# Altium footprint library Connectors-Headers.PcbLib: 4 footprints
Each footprint in its own frame and in the unit in brackets; x right, y up, seen from the top. Pads: shape width x height; smd on the part's side, far side on the other; paste and mask are expansions set on the pad; w line width, h text height; cw(c..) or ccw(c..) is an arc to the next point about the centre after c.
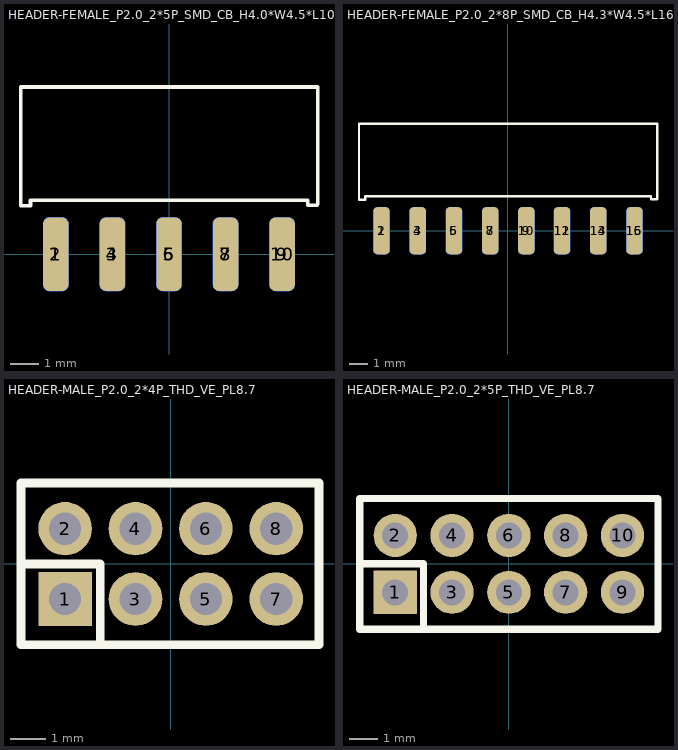
[diagram p0: the footprints below, top view; thin cyan lines are the x and y axes]

## HEADER-FEMALE_P2.0_2*5P_SMD_CB_H4.0*W4.5*L10.0 [mm]
pads (10):
  rrect50% 0.9x2.6 smd: 1(-4,0) 3(-2,0) 5(0,0) 7(2,0) 9(3.997,0)
  rrect50% 0.9x2.6 smd far side: 2(-4,0) 4(-2,0) 6(0,0) 8(2,0) 10(4,0)
Top Overlay:
  lines w0.127: -5.245,1.707 -5.245,2.113 -5.245,5.91 5.255,5.91 5.255,2.199 5.255,1.759 5.228,1.732 5.068,1.732 4.908,1.732 4.908,1.91 -4.893,1.91 -4.893,1.707 -5.245,1.707
Bottom Overlay:
  lines w0.127: -5.245,1.707 -5.245,2.113 -5.245,5.91 5.255,5.91 5.255,2.199 5.255,1.759 5.228,1.732 5.068,1.732 4.908,1.732 4.908,1.91 -4.893,1.91 -4.893,1.707 -5.245,1.707

## HEADER-FEMALE_P2.0_2*8P_SMD_CB_H4.3*W4.5*L16.6 [mm]
pads (16):
  rrect50% 0.9x2.6 smd: 1(-6.984,0) 3(-4.984,0) 5(-2.984,0) 7(-0.984,0) 9(1.013,0) 11(2.985,0) 13(4.985,0) 15(6.982,0)
  rrect50% 0.9x2.6 smd far side: 2(-6.984,0) 4(-4.984,0) 6(-2.984,0) 8(-0.984,0) 10(1.016,0) 12(2.985,0) 14(4.985,0) 16(6.985,0)
Top Overlay:
  lines w0.127: -8.229,1.707 -7.878,1.707 -7.878,1.91 7.893,1.91 7.893,1.732 8.052,1.732 8.213,1.732 8.24,1.759 8.24,2.199 8.24,5.91 -8.229,5.91 -8.229,2.113 -8.229,1.707
Bottom Overlay:
  lines w0.127: -8.229,5.91 -8.229,2.113 -8.229,1.707 -7.878,1.707 -7.878,1.91 ; 7.893,1.91 7.893,1.732 8.052,1.732 8.213,1.732 8.24,1.759 8.24,2.199 8.24,5.91

## HEADER-MALE_P2.0_2*4P_THD_VE_PL8.7 [mil]
pads (8):
  rect 60x60 hole 36: 1(-118.12,-39.37)
  round 60 hole 36: 2(-118.12,39.37) 3(-39.36,-39.37) 4(-39.36,39.37) 5(39.38,-39.37) 6(39.38,39.37) 7(118.12,-39.37) 8(118.12,39.37)
Top Overlay:
  lines w10: -165.4,0.03 -78.78,0.03 -78.78,-90.53 ; -167.35,-90.53 166.02,-90.53 166.02,90.58 -167.35,90.58 -167.35,-90.53
Mechanical 15:
  region: -165,-88.56 -165,-87.58 -166.38,-86.2 -168.34,-86.2 -169.72,-87.58 -169.72,-88.56 -169.72,-89.54 -168.34,-90.92 -166.38,-90.92 -165,-89.54 -165,-88.56
  lines w2: -167.36,-88.56 -167.36,88.61 166.02,88.61 166.02,-88.56 -167.36,-88.56

## HEADER-MALE_P2.0_2*5P_THD_VE_PL8.7 [mil]
pads (10):
  rect 60x60 hole 36: 1(-157.49,-39.37)
  round 60 hole 36: 2(-157.49,39.37) 3(-78.73,-39.37) 4(-78.73,39.37) 5(0.01,-39.37) 6(0.01,39.37) 7(78.75,-39.37) 8(78.75,39.37) 9(157.49,-39.37) 10(157.49,39.37)
Top Overlay:
  lines w10: -204.76,0.03 -118.15,0.03 -118.15,-90.53 ; -206.72,-90.53 -206.72,90.58 206.65,90.58 206.65,-90.53 -206.72,-90.53
Mechanical 15:
  region: -204.37,-88.56 -204.37,-87.58 -205.75,-86.2 -207.71,-86.2 -209.09,-87.58 -209.09,-88.56 -209.09,-89.54 -207.71,-90.92 -205.75,-90.92 -204.37,-89.54 -204.37,-88.56
  lines w2: -206.73,-88.56 206.65,-88.56 206.65,88.61 -206.73,88.61 -206.73,-88.56